# EAGLE library part M93C86-WBN6P (library ST Microelctronics_By_element14_Batch_1)
serial access EEPROM
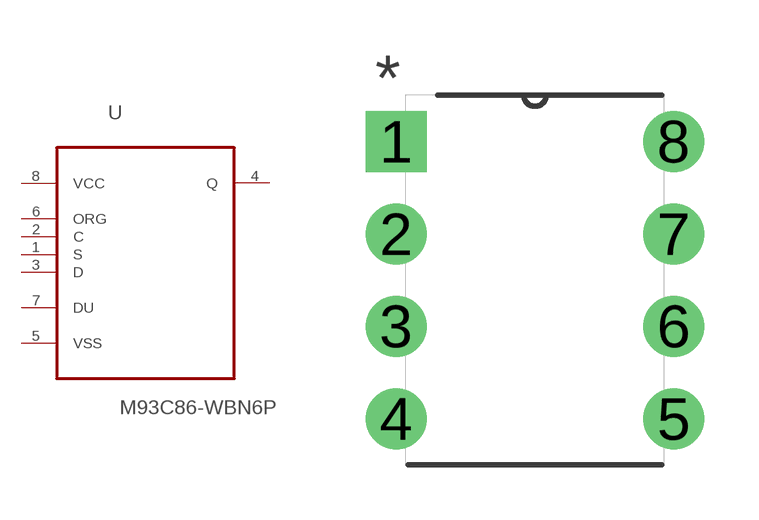
[diagram p261: symbol with the pads of DIP254P762X533-8; footprint DIP254P762X533-8]

Designator prefix U

## M93C86-WBN6P (MPN: M93C86-WBN6P; OC_FARNELL: 9882693; OC_NEWARK: 56P9770; PACKAGE: PDIP-8; SUPPLIER: STMICROELECTRONICS)  [DIP254P762X533-8]
1  S  in
2  C  in
3  D  in
4  Q  out
5  VSS  pwr
6  ORG  in
7  DU  pas
8  VCC  pwr

## Footprint DIP254P762X533-8 (pad centres in mm)
drill 1.118 square: 1 -7.62,7.62
drill 1.118: 2 -7.62,5.08; 3 -7.62,2.54; 4 -7.62,0; 5 0,0; 6 0,2.54; 7 0,5.08; 8 0,7.62